# EAGLE library part LT1767-3.3 (library #ControlBoardV2)
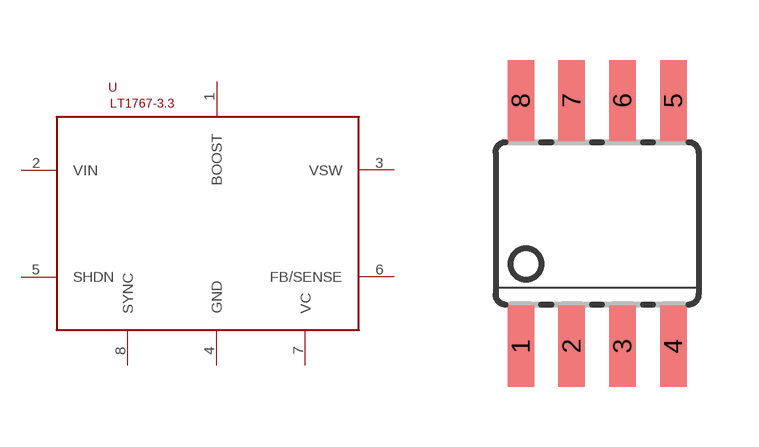
[diagram p2: symbol with the pads of SOIC08; footprint SOIC08]

Designator prefix -

## LT1767-3.3  [SOIC08]
1  BOOST
2  VIN
3  VSW
4  GND
5  SHDN
6  FB/SENSE
7  VC
8  SYNC

## Footprint SOIC08 (pad centres in mm)
Small Outline Package
smd 0.66 x 2.032: 1 -1.905,-3.073; 2 -0.635,-3.073; 3 0.635,-3.073; 4 1.905,-3.073; 5 1.905,3.073; 6 0.635,3.073; 7 -0.635,3.073; 8 -1.905,3.073